# EAGLE library part BC68 (library GSM)
NbIot module.
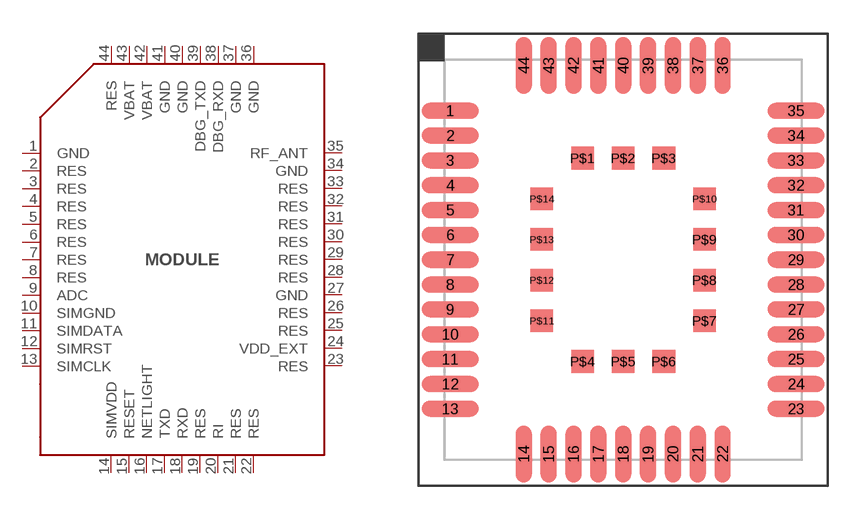
[diagram p5: symbol with the pads of QUECTEL_BC68; footprint QUECTEL_BC68]

Designator prefix MODULE

## BC68 (MANF: Quectel; MANF#: BC68)  [QUECTEL_BC68]
1  GND
2  RES
3  RES
4  RES
5  RES
6  RES
7  RES
8  RES
9  ADC
10  SIMGND
11  SIMDATA
12  SIMRST
13  SIMCLK
14  SIMVDD
15  RESET
16  NETLIGHT
17  TXD
18  RXD
19  RES
20  RI
21  RES
22  RES
23  RES
24  VDD_EXT
25  RES
26  RES
27  GND
28  RES
29  RES
30  RES
31  RES
32  RES
33  RES
34  GND
35  RF_ANT
36  GND
37  GND
38  DBG_RXD
39  DBG_TXD
40  GND
41  GND
42  VBAT
43  VBAT
44  RES

## Footprint QUECTEL_BC68 (pad centres in mm)
smd 2.5 x 0.7: 1 -7.65,6.6; 2 -7.65,5.5; 3 -7.65,4.4; 4 -7.65,3.3; 5 -7.65,2.2; 6 -7.65,1.1; 7 -7.65,0; 8 -7.65,-1.1; 9 -7.65,-2.2; 10 -7.65,-3.3; 11 -7.65,-4.4; 12 -7.65,-5.5; 13 -7.65,-6.6; 23 7.65,-6.6; 24 7.65,-5.5; 25 7.65,-4.4; 26 7.65,-3.3; 27 7.65,-2.2; 28 7.65,-1.1; 29 7.65,0; 30 7.65,1.1; 31 7.65,2.2; 32 7.65,3.3; 33 7.65,4.4; 34 7.65,5.5; 35 7.65,6.6
smd 0.7 x 2.5: 14 -4.4,-8.6; 15 -3.3,-8.6; 16 -2.2,-8.6; 17 -1.1,-8.6; 18 0,-8.6; 19 1.1,-8.6; 20 2.2,-8.6; 21 3.3,-8.6; 22 4.4,-8.6; 36 4.4,8.6; 37 3.3,8.6; 38 2.2,8.6; 39 1.1,8.6; 40 0,8.6; 41 -1.1,8.6; 42 -2.2,8.6; 43 -3.3,8.6; 44 -4.4,8.6
smd 1 x 1: P$1 -1.8,4.5; P$2 0,4.5; P$3 1.8,4.5; P$4 -1.8,-4.5; P$5 0,-4.5; P$6 1.8,-4.5; P$7 3.6,-2.7; P$8 3.6,-0.9; P$9 3.6,0.9; P$10 3.6,2.7; P$11 -3.6,-2.7; P$12 -3.6,-0.9; P$13 -3.6,0.9; P$14 -3.6,2.7